# Altium footprint library PcbLib1.PcbLib: 38 footprints (part 2 of 3)
Each footprint in its own frame and in the unit in brackets; x right, y up, seen from the top. Pads: shape width x height; smd on the part's side, far side on the other; paste and mask are expansions set on the pad; w line width, h text height; cw(c..) or ccw(c..) is an arc to the next point about the centre after c.
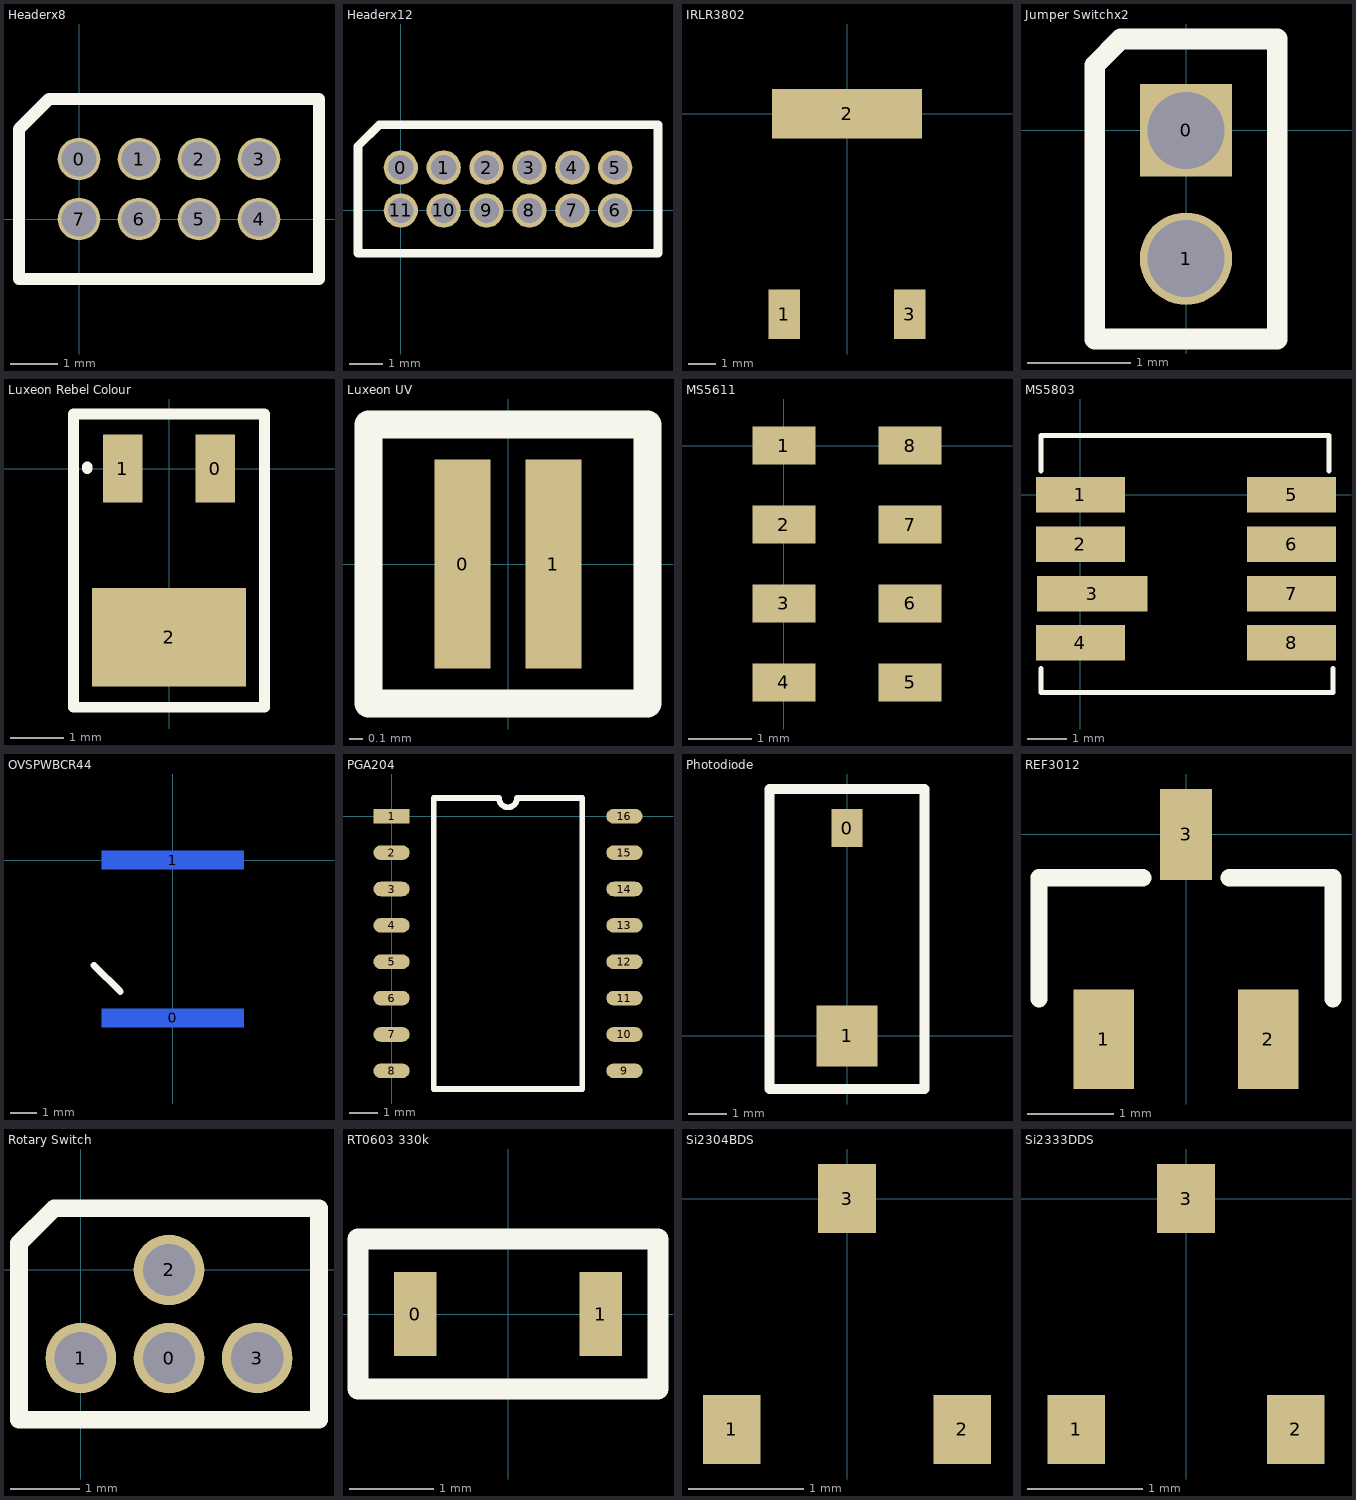
[diagram p1: the footprints below, top view; thin cyan lines are the x and y axes]

## Headerx8 [mm]
pads (8):
  round 0.9 hole 0.75: 0(0,1.27) 1(1.27,1.27) 2(2.54,1.27) 3(3.81,1.27) 4(3.81,0) 5(2.54,0) 6(1.27,0) 7(0,0)
Top Overlay:
  lines w0.254: -1.27,-1.27 -1.27,1.905 -0.635,2.54 5.08,2.54 5.08,-1.27 -1.27,-1.27

## Headerx12 [mil]
pads (12):
  round 40 hole 29.53: 0(0,50) 1(50,50) 2(100,50) 3(150,50) 4(200,50) 5(250,50) 6(250,0) 7(200,0) 8(150,0) 9(100,0) 10(50,0) 11(0,0)
Top Overlay:
  lines w10: -50,-50 300,-50 300,100 -25,100 -50,75 -50,-50

## IRLR3802 [mm]
pads (3):
  rect 1.14x1.8 smd: 1(-2.29,-7.3) 3(2.29,-7.3)
  rect 5.46x1.8 smd: 2(0,0)

## Jumper Switchx2 [mm]
pads (2):
  rect 0.9x0.9 hole 0.75: 0(0,0)
  round 0.9 hole 0.75: 1(0,-1.25)
Top Overlay:
  lines w0.2: -0.889,-2.032 -0.889,0.635 -0.635,0.889 0.889,0.889 0.889,-2.032 -0.889,-2.032

## Luxeon Rebel Colour [mm]
pads (3):
  rect 0.73x1.26 smd: 0(0.86,0) 1(-0.86,0)
  rect 2.86x1.83 smd: 2(0,-3.14)
Top Overlay:
  lines w0.2: -1.524,0 -1.524,0.033 ; -1.778,-4.445 1.778,-4.445 1.778,1.016 -1.778,1.016 -1.778,-0.475 -1.778,-4.445

## Luxeon UV [mm]
pads (2):
  rect 0.4x1.5 smd: 0(-0.325,0) 1(0.325,0)
Top Overlay:
  lines w0.2: -1,-1 1,-1 1,1 -1,1 -1,-1

## MS5611 [mm]
pads (8):
  rect 1x0.6 smd: 1(0,0) 2(0,-1.25) 3(0,-2.5) 4(0,-3.75) 5(2,-3.75) 6(2,-2.5) 7(2,-1.25) 8(2,0)

## MS5803 [mm]
pads (8):
  rect 2.25x0.9 smd: 1(0,0) 2(0,-1.25) 4(0,-3.75) 5(5.35,0) 6(5.35,-1.25) 7(5.35,-2.5) 8(5.35,-3.75)
  rect 2.8x0.9 smd: 3(0.3,-2.5)
Top Overlay:
  lines w0.127: -1,-4.4 -1,-5 6.4,-5 6.4,-4.4 ; -1,0.6 -1,1.5 6.3,1.5 6.3,0.6

## OVSPWBCR44 [mm]
pads (2):
  rect 5.4x0.7 smd far side: 0(0,-6) 1(0,0)
Top Overlay:
  lines w0.254: -3,-4 -2,-5

## PGA204 [mm]
pads (16):
  rect 1.27x0.51 smd: 1(0,0)
  oval 1.27x0.51 smd: 2(0,-1.27) 3(0,-2.54) 4(0,-3.81) 5(0,-5.08) 6(0,-6.35) 7(0,-7.62) 8(0,-8.89) 9(8.135,-8.89) 10(8.135,-7.62) 11(8.135,-6.35) 12(8.135,-5.08) 13(8.135,-3.81) 14(8.135,-2.54) 15(8.135,-1.27) 16(8.135,0)
Top Overlay:
  lines w0.2: 1.47,-9.525 6.665,-9.525 6.665,0.635 4.385,0.635 cw(c4.068,0.635) 3.75,0.635 1.47,0.635 1.47,-9.525

## Photodiode [mm]
pads (2):
  rect 0.81x1 smd: 0(0,5.45)
  rect 1.6x1.6 smd: 1(0,0)
Top Overlay:
  lines w0.254: -2.032,-1.397 -2.032,6.477 ; -2,6.477 2.032,6.477 2.032,-1.397 -1.968,-1.397

## REF3012 [mm]
pads (3):
  rect 0.7x1.15 smd: 1(-0.95,-2.37) 2(0.95,-2.37)
  rect 0.6x1.05 smd: 3(0,0)
Top Overlay:
  lines w0.2: -1.7,-1.9 -1.7,-0.5 -0.5,-0.5 ; 0.5,-0.5 1.7,-0.5 1.7,-1.9

## Rotary Switch [mil]
pads (4):
  round 40 hole 29.53: 0(50,-50) 1(0,-50) 2(50,0) 3(100,-50)
Top Overlay:
  lines w10: -35,-85 135,-85 135,35 -15,35 -35,15 -35,-85

## RT0603 330k [mm]
pads (2):
  rect 0.5x1 smd: 0(-1.1,0) 1(1.1,0)
Top Overlay:
  lines w0.254: -1.778,-0.889 -1.778,0.889 1.778,0.889 1.778,-0.889 -1.778,-0.889

## Si2304BDS [mm]
pads (3):
  rect 0.5x0.6 smd: 1(-1,-2) 2(1,-2) 3(0,0)

## Si2333DDS [mm]
pads (3):
  rect 0.5x0.6 smd: 1(-0.95,-2) 2(0.95,-2) 3(0,0)